# EAGLE library part TPS61099* (library bschulz)
TPS61099x - Synchronous Step Up Converter (Boost), with Ultra Low Quiescent Current Characteristics: Vin: 0.7V ~ 5.5V Vout: 1.8V ~ 5.5V (Fixed options available) Output Current: 1 A (if Vin > 2.5V) 0.75A (if Vin < 2.5V) IQ: ~1 μA Operating Temperature: -40°C to 85°C Digikey: 296-44869-1-ND (YFF, Adj) <https://www.digikey.com/product-detail/en/texas-instruments/TPS61099YFFT/296-44869-1-ND/6207407>
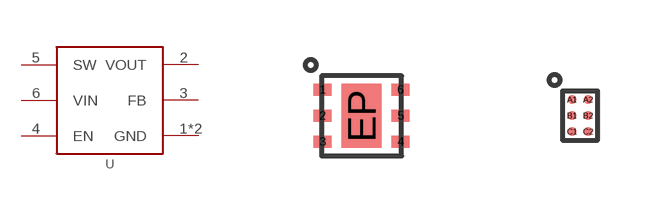
[diagram p82: symbol with the pads of DRV0006A; footprints DRV0006A, YFF0006]

Designator prefix -

## TPS61099DRV  [DRV0006A]
1  GND  pwr
2  VOUT  pwr
3  FB  in
4  EN  in
5  SW  pwr
6  VIN  pwr
EP  GND  pwr

## TPS61099YFF (DIGIKEY: 296-44869-1-ND; DISP: TPS61099; MF: TI; MPN: TPS61099YFFT), TPS610994YFF (DIGIKEY: 296-47890-1-ND; DISP: TPS610994; MF: TI; MPN: TPS610994YFFR), TPS610997YFF (DIGIKEY: 296-47891-1-ND; DISP: TPS610997; MF: TI; MPN: TPS610997YFFR)  [YFF0006]
A1  VIN  pwr
A2  GND  pwr
B1  SW  pwr
B2  VOUT  pwr
C1  EN  in
C2  FB  in

## Footprint DRV0006A (pad centres in mm)
WSON 6 pin, 2x2mm DRV0006A
smd 0.45 x 0.3: 1 -0.975,0.65; 2 -0.975,0; 3 -0.975,-0.65; 4 0.975,-0.65; 5 0.975,0; 6 0.975,0.65
smd 1 x 1.6: EP 0,0

## Footprint YFF0006 (pad centres in mm)
DSBGA, 6 pin, 1.23mm x 0.88mm
smd 0.23 x 0.23: A1 -0.2,0.4; A2 0.2,0.4; B1 -0.2,0; B2 0.2,0; C1 -0.2,-0.4; C2 0.2,-0.4